# EAGLE library part ADCMP553(ANADEV_PECL_COMPARATOR) (library QuantumOptics)
ADCMP553, AnaDev, PECL comparator, 750ps, +3.3V.
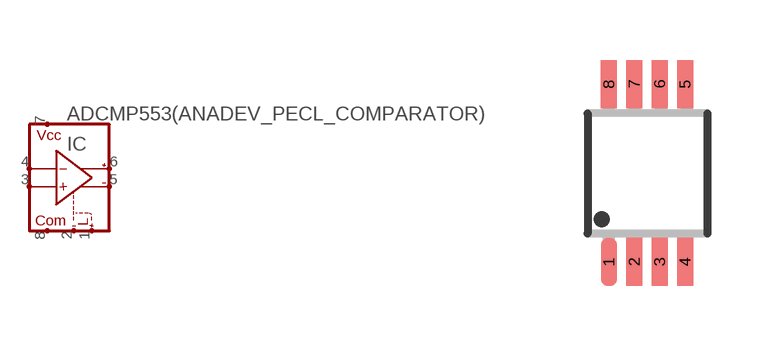
[diagram p42: symbol with the pads of MSOP8; footprint MSOP8]

Designator prefix IC

## ADCMP553(ANADEV_PECL_COMPARATOR)  [MSOP8]
1  LA-  nc
2  LA+  nc
3  IN+
4  IN-
5  Q-
6  Q+
7  VCC
8  COM

## Footprint MSOP8 (pad centres in mm)
MSOP-8, A.K.A. RM-8. Use 0.025" grid.
smd 0.4 x 1.2: 1 -0.635,-1.905; 2 0,-1.905; 3 0.635,-1.905; 4 1.27,-1.905; 5 1.27,2.54; 6 0.635,2.54; 7 0,2.54; 8 -0.635,2.54